# Altium footprint library PINPAD.PCBLIB: 151 footprints (part 4 of 10)
Each footprint in its own frame and in the unit in brackets; x right, y up, seen from the top. Pads: shape width x height; smd on the part's side, far side on the other; paste and mask are expansions set on the pad; w line width, h text height; cw(c..) or ccw(c..) is an arc to the next point about the centre after c.
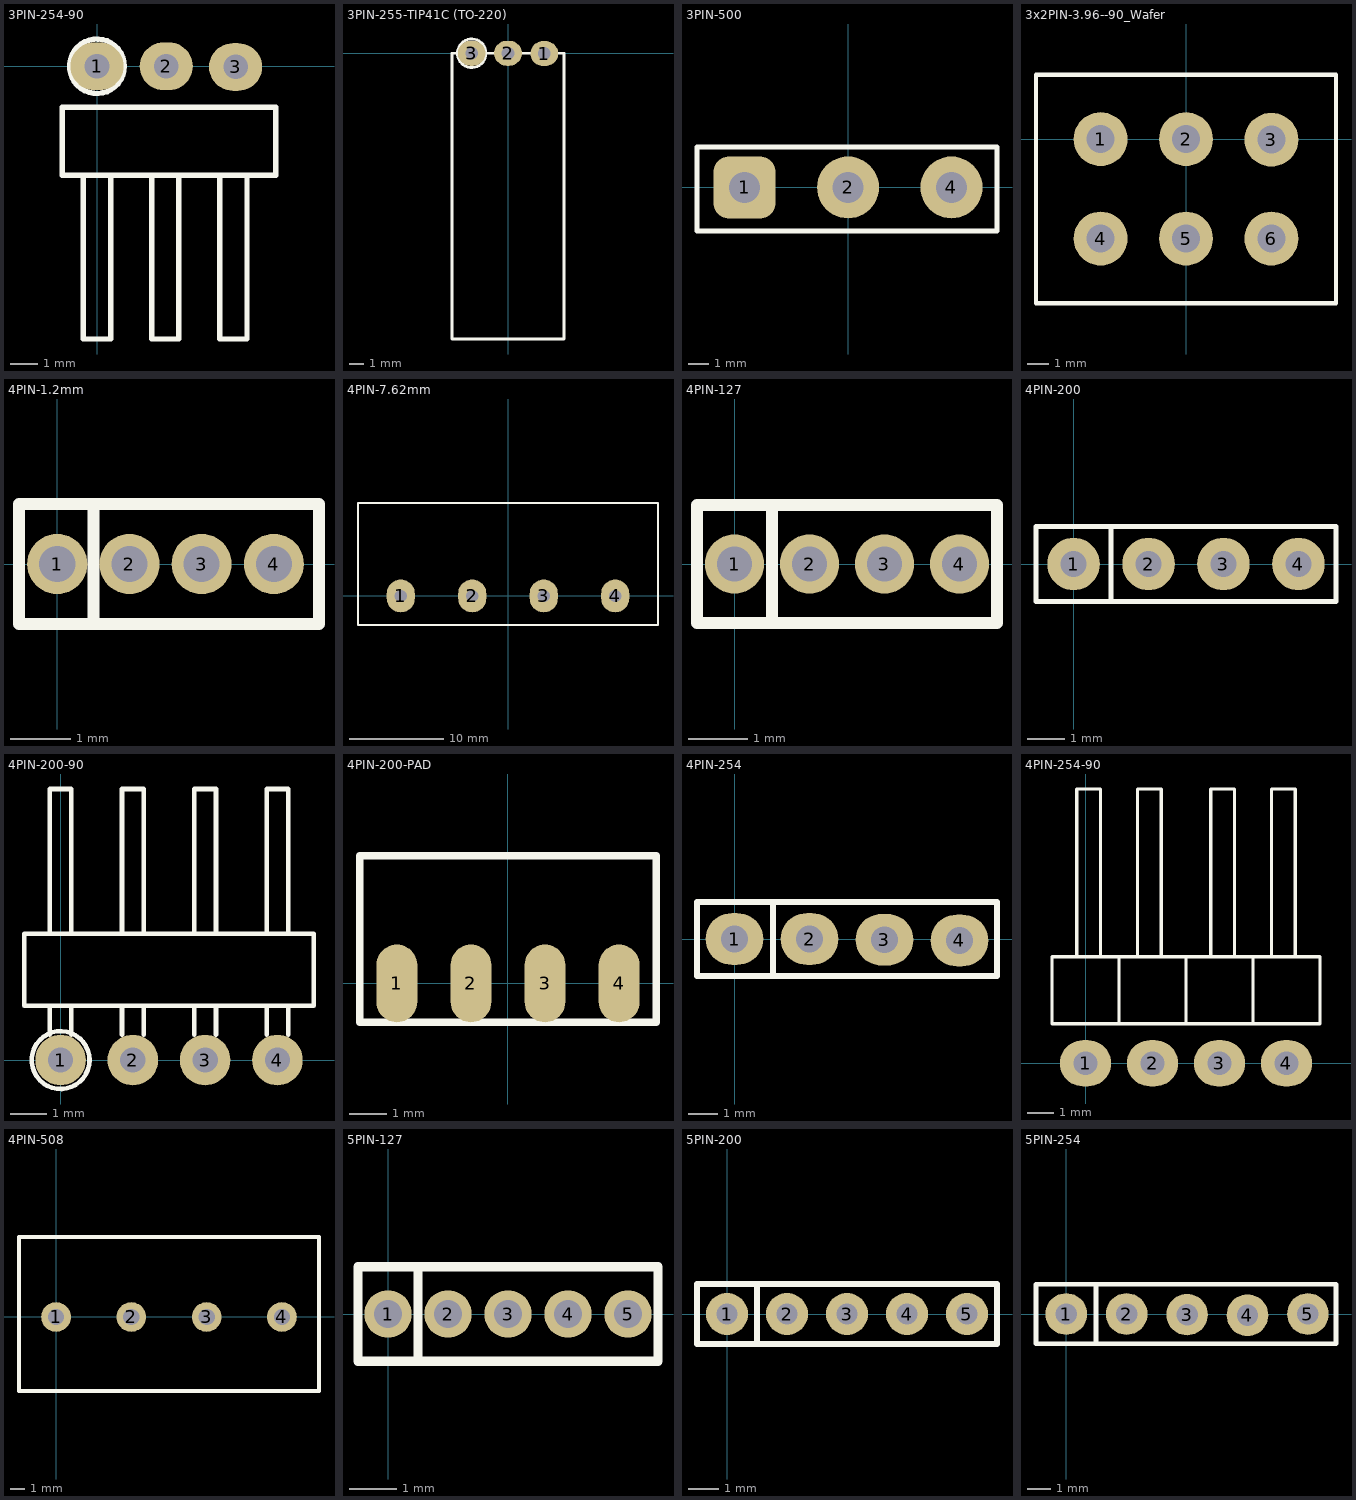
[diagram p3: the footprints below, top view; thin cyan lines are the x and y axes]

## 3PIN-254-90 [mm]
pads (3):
  oval 1.95x1.75 hole 0.9: 1(0,0) 2(2.54,0) 3(5.08,-0.025)
TopOverlay:
  circle w0.2: c0,0 r1
  lines w0.2: -0.5,-4 -0.5,-10 0.5,-10 0.5,-4 ; 2,-4 2,-10 3,-10 3,-4 ; 4.5,-4 4.5,-10 5.5,-10 5.5,-4 ; -1.27,-4 6.55,-4 6.55,-1.5 -1.27,-1.5 -1.27,-4

## 3PIN-255-TIP41C (TO-220) [mm] "3PIN-255-TIP41C (TO-220)"
pads (3):
  oval 1.95x1.75 hole 0.9: 1(2.54,-0.012) 2(0,0.013) 3(-2.54,0.013)
TopOverlay:
  circle w0.2: c-2.54,0.013 r1
  lines w0.2: -3.91,0 -3.91,-20 3.91,-20 3.91,0 ; -3.91,0.013 3.91,0.013

## 3PIN-500 [mm] "3PIN-500"
pads (3):
  rrect50% 3x3 hole 1.5: 1(-5,0)
  round 3 hole 1.5: 2(0,0) 4(5,0)
TopOverlay:
  lines w0.254: -7.3,-2.1 7.2,-2.1 7.2,1.95 -7.3,1.95 -7.3,-2.1

## 3x2PIN-3.96--90_Wafer [mm] "3x2PIN-3.96--90_Wafer"
pads (6):
  round 2.5 hole 1.3: 1(-3.96,0.013) 2(0,0.013) 3(3.96,-0.012) 4(-3.96,-4.6) 5(0,-4.6) 6(3.96,-4.6)
TopOverlay:
  lines w0.2: -6.96,-7.6 -6.96,3 6.96,3 6.96,-7.6 -6.96,-7.6

## 4PIN-1.2mm [mm] "4PIN-1.2mm"
pads (4):
  round 1 hole 0.6: 1(0,0) 2(1.2,0) 3(2.4,0) 4(3.6,0)
TopOverlay:
  lines w0.2: 0.6,-1 0.6,1 ; -0.635,-1 4.35,-1 4.35,1 -0.635,1 -0.635,-1

## 4PIN-7.62mm [mm] "4PIN-7.62mm"
pads (4):
  oval 3x3.5 hole 1.3: 1(-11.43,0) 2(-3.81,0) 3(3.81,0) 4(11.43,0)
TopOverlay:
  lines w0.254: -15.99,-3.1 -15.99,9.9 0.75,9.9 15.99,9.9 15.99,-3.1 0.75,-3.1 -15.99,-3.1

## 4PIN-127 [mm]
pads (4):
  round 1 hole 0.6: 1(0,0) 2(1.27,0) 3(2.54,0) 4(3.81,0)
TopOverlay:
  lines w0.2: 0.635,-1 0.635,1 ; -0.635,-1 4.445,-1 4.445,1 -0.635,1 -0.635,-1

## 4PIN-200 [mm]
pads (4):
  round 1.4 hole 0.7: 1(0,0) 2(2,0) 3(4,0) 4(6,0)
TopOverlay:
  lines w0.127: 1,-1 1,1 ; -1,-1 -1,1 7,1 7,-1 -1,-1

## 4PIN-200-90 [mm]
pads (4):
  round 1.4 hole 0.7: 1(0,0) 2(1.999,0) 3(4,0) 4(6,0)
TopOverlay:
  circle w0.127: c0,0 r0.8
  lines w0.127: -0.3,0.7 -0.3,1.5 ; -0.3,3.5 -0.3,7.5 0.3,7.5 0.3,3.5 ; 0.3,0.7 0.3,1.5 ; 1.7,0.7 1.7,1.5 ; 1.7,3.5 1.7,7.5 2.3,7.5 2.3,3.5 ; 2.3,0.7 2.3,1.5 ; 3.7,0.7 3.7,1.5 ; 3.7,3.5 3.7,7.5 4.3,7.5 4.3,3.5 ; 4.3,0.7 4.3,1.5 ; 5.7,0.7 5.7,1.5 ; 5.7,3.5 5.7,7.5 6.3,7.5 6.3,3.5 ; 6.3,0.7 6.3,1.5 ; -1,1.5 -1,3.5 7,3.5 7,1.5 -1,1.5

## 4PIN-200-PAD [mm]
pads (4):
  oval 1.1x2.1 smd: 1(-3,0) 2(-1,0) 3(1,0) 4(3,0)
TopOverlay:
  lines w0.2: -4,-1.05 4,-1.05 4,3.45 -4,3.45 -4,-1.05

## 4PIN-254 [mm]
pads (4):
  oval 1.95x1.75 hole 0.9: 1(0,0) 2(2.54,0) 3(5.08,-0.025) 4(7.62,-0.05)
TopOverlay:
  lines w0.2: 1.3,-1.25 1.3,1.25 ; -1.27,-1.25 -1.27,1.25 8.89,1.25 8.89,-1.25 -1.27,-1.25

## 4PIN-254-90 [mm]
pads (4):
  oval 1.95x1.75 hole 0.9: 1(0,0) 2(2.54,0) 3(5.08,0) 4(7.62,0)
TopOverlay:
  lines w0.127: -0.33,4.04 -0.33,10.4 0.57,10.4 0.57,4.04 ; 1.27,1.5 1.27,4.04 ; 1.97,4.04 1.97,10.4 2.87,10.4 2.87,4.04 ; 4.75,4.04 4.75,10.4 5.65,10.4 5.65,4.04 ; 6.35,1.5 6.35,4.04 ; 7.05,4.04 7.05,10.4 7.95,10.4 7.95,4.04 ; 3.81,1.5 -1.27,1.5 -1.27,4.04 3.81,4.04 ; 3.81,1.5 3.81,4.04 ; 3.81,1.5 8.89,1.5 8.89,4.04 3.81,4.04 ; 3.81,1.5 3.81,4.04

## 4PIN-508 [mm] "4PIN-508"
pads (4):
  round 2 hole 1.1: 1(0,0) 2(5.08,0) 3(10.16,0) 4(15.24,0)
TopOverlay:
  lines w0.254: -2.5,-5 -2.5,5.4 17.74,5.4 17.74,-5 -2.5,-5

## 5PIN-127 [mm]
pads (5):
  round 1 hole 0.6: 1(0,0) 2(1.27,0) 3(2.54,0) 4(3.81,0) 5(5.08,0)
TopOverlay:
  lines w0.2: 0.635,-1 0.635,1 ; -0.635,-1 5.715,-1 5.715,1 -0.635,1 -0.635,-1

## 5PIN-200 [mm]
pads (5):
  round 1.4 hole 0.7: 1(0,0) 2(2,0) 3(4,0) 4(6,0) 5(8,0)
TopOverlay:
  lines w0.2: 1,-1 1,0.975 ; -1,-1 9,-1 9,1 -1,1 -1,-1

## 5PIN-254 [mm]
pads (5):
  round 1.75 hole 0.9: 1(0,0) 2(2.54,0) 3(5.08,-0.025) 4(7.62,-0.05) 5(10.16,0)
TopOverlay:
  lines w0.2: 1.25,-1.2 1.25,1.25 ; -1.27,-1.25 -1.27,1.25 11.34,1.25 11.34,-1.25 -1.27,-1.25